# Altium integrated library Linear Technology Power Management Battery Management.IntLib: 626 symbols (part 1 of 56)
Pins are listed as number, name and electrical type; pins without a type are passive.

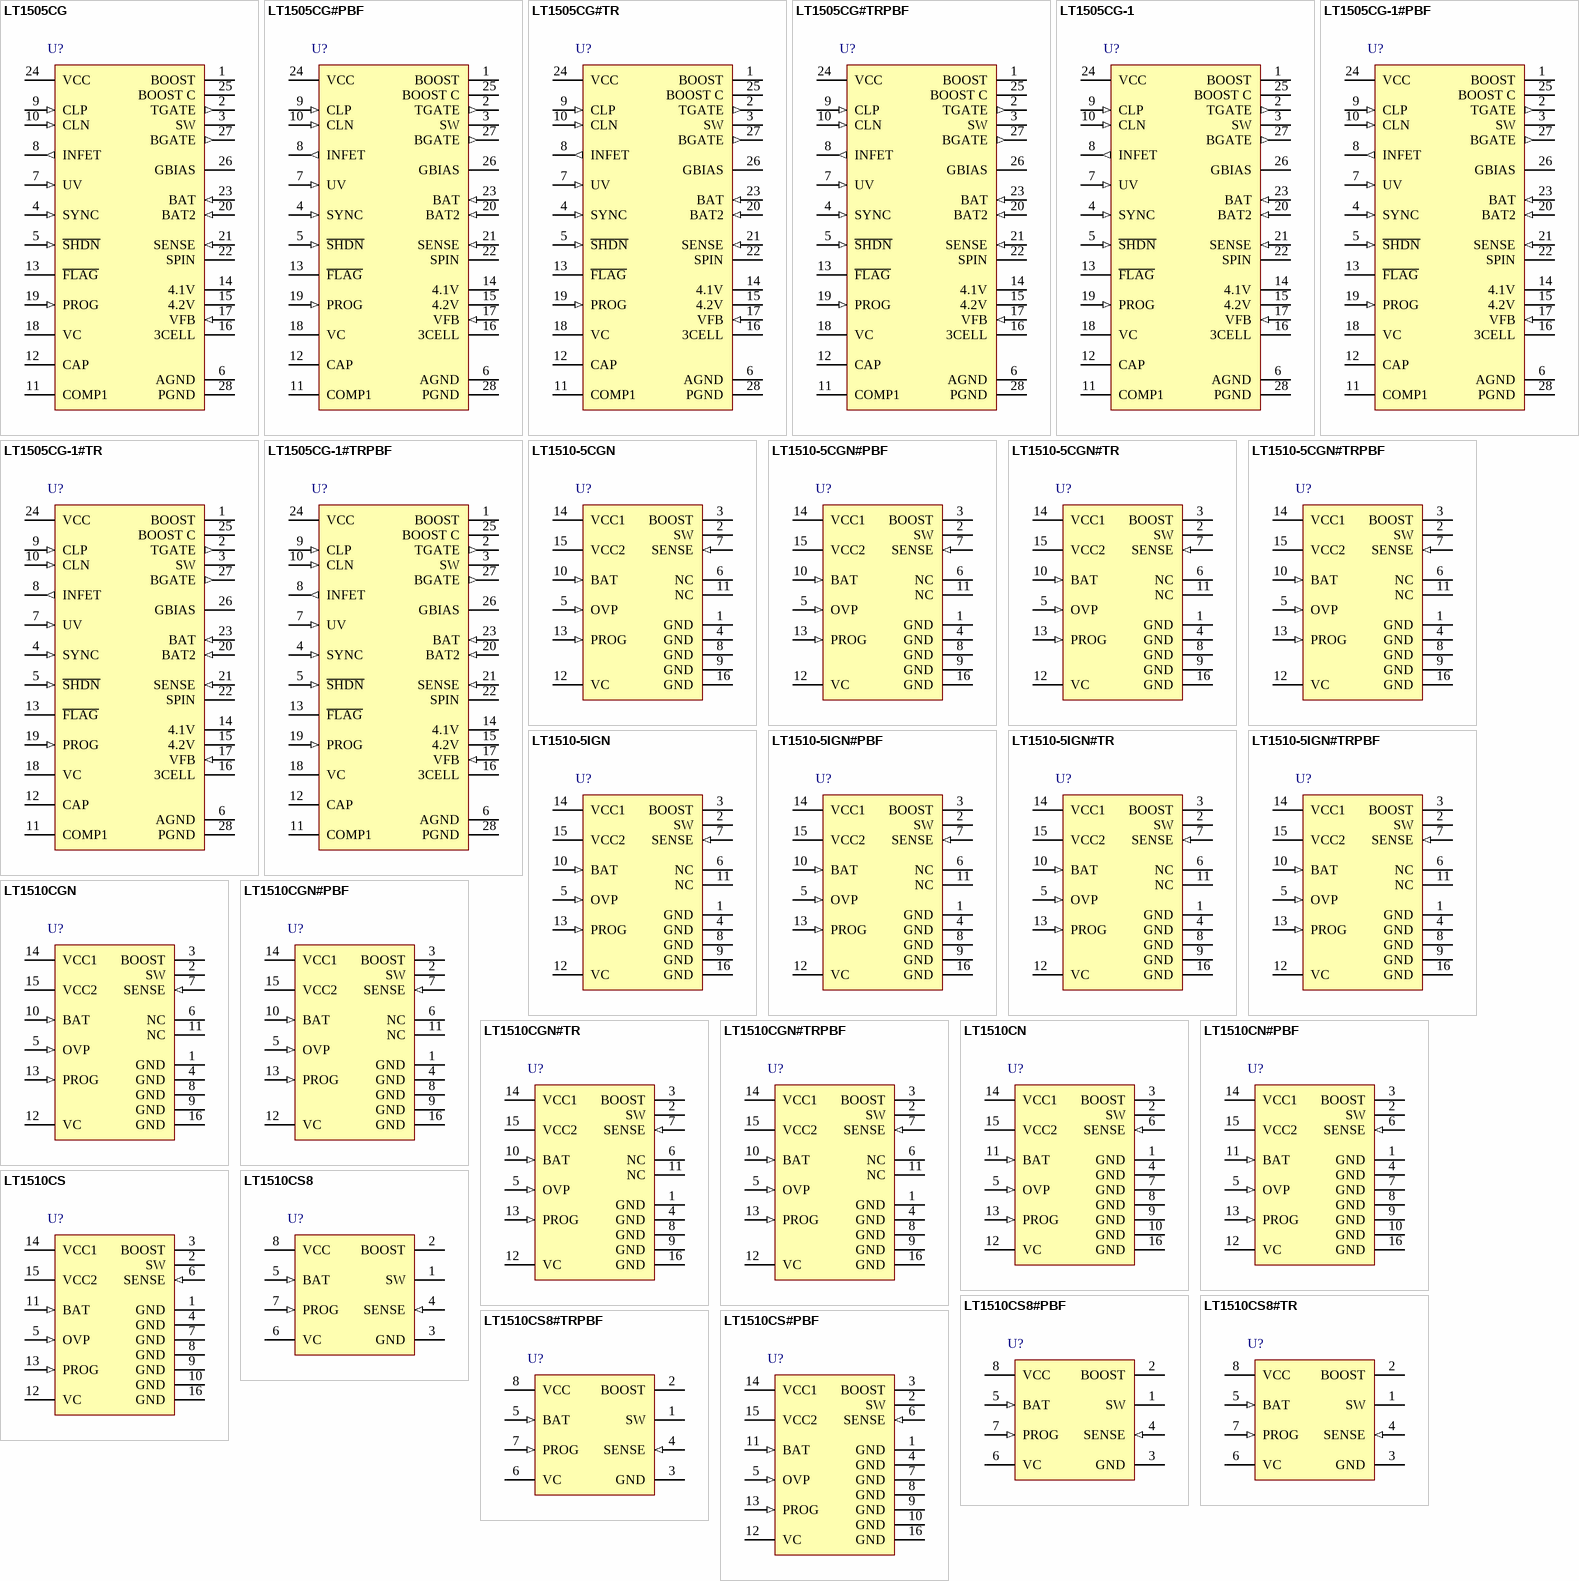
[diagram p0: symbols LT1505CG to LT1510CS#PBF]

## LT1505CG
designator U?
Synchronous Switching Controller for High Current, High Efficiency, 11 to 24 V Vin, 28-pin SOP (G-28), 0 to 70 degC; Manufacturer: Linear Technology; PartNumber: LT1505CG; Battery Chemistry: Li-Ion, Li-Polymer, NiCd, NiMH, Lead Acid; Charge Termination: Microcontroller; Float Voltage: Adj; Max Charge Current(A): 4; Number of Cells: 1 to 4 (Li), 1 to 12 (Ni); Vin Max(V): 24; Vin Min(V): 11; DatasheetVersion: Rev. C; PackageVersion: Jun-10; PackageReference: G-28; PackageDescription: 28-Pin Plastic SSOP, Body 10.2 x 5.3 mm, Pitch 0.65 mm; Supplier 1: Digi-Key; Supplier Part Number 1: LT1505CG-ND; RoHS: FALSE; Type of Charger: Switching; Mounting Technology: Surface Mount; ComponentLink1Description: Manufacturer URL; ComponentLink1URL: http://www.linear.com/; ComponentLink2Description: Datasheet; ComponentLink2URL: http://cds.linear.com/docs/en/datasheet/1505fc.pdf; ComponentLink3Description: Package Specification; ComponentLink3URL: http://cds.linear.com/docs/en/packaging/SSOP_28_05-08-1640.pdf
footprint LT-G-28_N (SOP, 28-Leads, Body 10.2x5.3mm, Pitch 0.65mm, IPC Medium Density)
footprint LT-G-28_L (SOP, 28-Leads, Body 10.2x5.3mm, Pitch 0.65mm, IPC High Density)
footprint LT-G-28_M (SOP, 28-Leads, Body 10.2x5.3mm, Pitch 0.65mm, IPC Low Density)
pins: 1 BOOST "This pin is used to bootstrap and supply power for the topside power switch gate drive and control circuity. In normal operation, VBOOST is powered from an internally generated 8.6V regulator VGBIAS, VBOOST approx=  VCC + 9.(See Datasheet)", 2 TGATE (out) "This pin provides gate drive to the topside power FET. When TGATE is driven on, the gate voltage will be approximately equal to VSW + 6.6V. A series resistor of 5ohm to 10ohm should be used from this pin to the gate of the (See Datasheet)", 3 SW "This pin is the reference point for the floating topside gate drive circuitry. It is the common connection for the top and bottom side switches and the output inductor. This pin switches between ground and VCC with very high (See Datasheet)", 4 SYNC (in) "Synchronization Input. The LT1505 can be synchronized to an external clock with pulses that have duty cycles between 10% and 95%. An internal one shot that is triggered on the rising edge of the sync pulse makes this input (See Datasheet)", 5 ~{SHDN} (in) "Shutdown. When this pin is pulled below 1V, switching will stop, GBIAS will go low and the input currents of CA1 will be off. Note that input current of about 4mA keeps the device in shutdown unless an external pull-up (See Datasheet)", 6 AGND (power) "Low Current Analog Ground.", 7 UV (in) "Undervoltage Lockout Input. The rising threshold is 6.7V with a hysteresis of 0.5V. Switching stops in undervoltage lockout. When the input supply (normally the wall adapter output) to the chip is removed, the UV pin must be (See Datasheet)", 8 INFET (out) "For very low dropout applications, an external P-channel MOSFET can be used to connect the input supply to VCC. This pin provides the gate drive for the PFET. The gate drive is clamped to 8V below VCC. The gate is driven on (See Datasheet)", 9 CLP (in) "Positive Input to the Input Current Limit Amplifier CL1. The threshold is set at 92mV. When used to limit input current, a filter is needed to filter out the 200kHz switching noise.", 10 CLN (in) "Negative Input to the Input Current Limit Amplifier CL1. When used, both CLP and CLN should be connected to a voltage higher than 6V and normally VCC (to the VCC bypass capacitor for less noise). Maximum voltage allowed on (See Datasheet)", 11 COMP1 "Compensation Node for the Input Current Limit Amplifier CL1. At input adapter current limit, this pin rises to 1V. By forcing COMP1 low with an external transistor, amplifier CL1 will be disabled (no adapter current limit). (See Datasheet)", 12 CAP "A 0.1uF capacitor from CAP to ground is needed to filter the sampled charging current signal. This filtered signal is used to set the FLAG pin when the charging current drops below 20% of the programmed maximum charging (See Datasheet)", 13 ~{FLAG} (oc) "This pin is an open-collector output that is used to indicate the end of charge. The F\L\A\G\ pin is driven low when the charge current drops below 20% of the programmed charge current. A pull-up resistor is required if this (See Datasheet)", 14 4.1V "These four pins are used to select the battery voltage using the preset internal resistor network. The VFB pin is the noninverting input to the amplifier, VA in the Block Diagram, that controls the charging current when the (See Datasheet)", 15 4.2V "These four pins are used to select the battery voltage using the preset internal resistor network. The VFB pin is the noninverting input to the amplifier, VA in the Block Diagram, that controls the charging current when the (See Datasheet)", 16 3CELL "These four pins are used to select the battery voltage using the preset internal resistor network. The VFB pin is the noninverting input to the amplifier, VA in the Block Diagram, that controls the charging current when the (See Datasheet)", 17 VFB (in) "These four pins are used to select the battery voltage using the preset internal resistor network. The VFB pin is the noninverting input to the amplifier, VA in the Block Diagram, that controls the charging current when the (See Datasheet)", 18 VC "This is the control signal of the inner loop of the current mode PWM. Switching starts at 0.9V, higher VC corresponds to higher charging current in normal operation and reaches 1.1V at full charging current. A capacitor of (See Datasheet)", 19 PROG (in) "This pin is for programming the charge current and for system loop compensation. During normal operation, VPROG stays at 2.465V. If it is shorted to GND or more than 1mA is drawn out of the pin, switching will stop. When a (See Datasheet)", 20 BAT2 (in) "This pin is used to connect the battery to the internal preset voltage setting resistor. An internal switch disconnects the internal divider from the battery when the device is in shutdown or when power is disconnected. This (See Datasheet)", 21 SENSE (in) "This pin is the noninverting input to the current amplifier CA1 in the Block Diagram. Typical bias current is -50uA.", 22 SPIN "This pin is for the internal amplifier CA1 bias. It must be connected as shown in the application circuit.", 23 BAT (in) "Current Amplifier CA1 Inverting Input. Typical bias current is -50uA.", 24 VCC (power) "Input Supply. For good bypass, a low ESR capacitor of 10uF or higher is required. Keep the lead length to a minimum. VCC should be between 11V and 24V Do not force VCC below VBAT by more than 1V with the battery present.", 25 BOOST C (power) "This pin is used to bootstrap and supply the current sense amplifier CA1 for very low dropout condition. VCC can be as low as only 0.4V above the battery voltage. A diode and a capacitor are needed to get the voltage from (See Datasheet)", 26 GBIAS "This is the output of the internal 9.1V regulator to power the drivers and control circuits. This pin must be bypassed to a ground plane with a minimum of 2.2uF ceramic capacitor. Switching will stop when VGBIAS drops below (See Datasheet)", 27 BGATE (out) "Low Side Power MOSFET Drive.", 28 PGND (power) "MOSFET Driver Power Ground. A solid system ground plane is very important. See the LT1505 Demo Manual for further information."

## LT1505CG#PBF
designator U?
Synchronous Switching Controller for High Current, High Efficiency, 11 to 24 V Vin, 28-pin SOP (G-28), 0 to 70 degC, Pb-Free; Manufacturer: Linear Technology; PartNumber: LT1505CG#PBF; Battery Chemistry: Li-Ion, Li-Polymer, NiCd, NiMH, Lead Acid; Charge Termination: Microcontroller; Float Voltage: Adj; Max Charge Current(A): 4; Number of Cells: 1 to 4 (Li), 1 to 12 (Ni); Vin Max(V): 24; Vin Min(V): 11; DatasheetVersion: Rev. C; PackageVersion: Jun-10; PackageReference: G-28; PackageDescription: 28-Pin Plastic SSOP, Body 10.2 x 5.3 mm, Pitch 0.65 mm; Supplier 1: Digi-Key; Supplier Part Number 1: LT1505CG#PBF-ND; Supplier 2: Farnell; Supplier Part Number 2: 1648005; Supplier 3: Newark; Supplier Part Number 3: 58M0976; RoHS: TRUE; Type of Charger: Switching; Mounting Technology: Surface Mount; ComponentLink1Description: Manufacturer URL; ComponentLink1URL: http://www.linear.com/; ComponentLink2Description: Datasheet; ComponentLink2URL: http://cds.linear.com/docs/en/datasheet/1505fc.pdf; ComponentLink3Description: Package Specification; ComponentLink3URL: http://cds.linear.com/docs/en/packaging/SSOP_28_05-08-1640.pdf
footprint LT-G-28_N (SOP, 28-Leads, Body 10.2x5.3mm, Pitch 0.65mm, IPC Medium Density)
footprint LT-G-28_L (SOP, 28-Leads, Body 10.2x5.3mm, Pitch 0.65mm, IPC High Density)
footprint LT-G-28_M (SOP, 28-Leads, Body 10.2x5.3mm, Pitch 0.65mm, IPC Low Density)
pins: 1 BOOST "This pin is used to bootstrap and supply power for the topside power switch gate drive and control circuity. In normal operation, VBOOST is powered from an internally generated 8.6V regulator VGBIAS, VBOOST approx=  VCC + 9.(See Datasheet)", 2 TGATE (out) "This pin provides gate drive to the topside power FET. When TGATE is driven on, the gate voltage will be approximately equal to VSW + 6.6V. A series resistor of 5ohm to 10ohm should be used from this pin to the gate of the (See Datasheet)", 3 SW "This pin is the reference point for the floating topside gate drive circuitry. It is the common connection for the top and bottom side switches and the output inductor. This pin switches between ground and VCC with very high (See Datasheet)", 4 SYNC (in) "Synchronization Input. The LT1505 can be synchronized to an external clock with pulses that have duty cycles between 10% and 95%. An internal one shot that is triggered on the rising edge of the sync pulse makes this input (See Datasheet)", 5 ~{SHDN} (in) "Shutdown. When this pin is pulled below 1V, switching will stop, GBIAS will go low and the input currents of CA1 will be off. Note that input current of about 4mA keeps the device in shutdown unless an external pull-up (See Datasheet)", 6 AGND (power) "Low Current Analog Ground.", 7 UV (in) "Undervoltage Lockout Input. The rising threshold is 6.7V with a hysteresis of 0.5V. Switching stops in undervoltage lockout. When the input supply (normally the wall adapter output) to the chip is removed, the UV pin must be (See Datasheet)", 8 INFET (out) "For very low dropout applications, an external P-channel MOSFET can be used to connect the input supply to VCC. This pin provides the gate drive for the PFET. The gate drive is clamped to 8V below VCC. The gate is driven on (See Datasheet)", 9 CLP (in) "Positive Input to the Input Current Limit Amplifier CL1. The threshold is set at 92mV. When used to limit input current, a filter is needed to filter out the 200kHz switching noise.", 10 CLN (in) "Negative Input to the Input Current Limit Amplifier CL1. When used, both CLP and CLN should be connected to a voltage higher than 6V and normally VCC (to the VCC bypass capacitor for less noise). Maximum voltage allowed on (See Datasheet)", 11 COMP1 "Compensation Node for the Input Current Limit Amplifier CL1. At input adapter current limit, this pin rises to 1V. By forcing COMP1 low with an external transistor, amplifier CL1 will be disabled (no adapter current limit). (See Datasheet)", 12 CAP "A 0.1uF capacitor from CAP to ground is needed to filter the sampled charging current signal. This filtered signal is used to set the FLAG pin when the charging current drops below 20% of the programmed maximum charging (See Datasheet)", 13 ~{FLAG} (oc) "This pin is an open-collector output that is used to indicate the end of charge. The F\L\A\G\ pin is driven low when the charge current drops below 20% of the programmed charge current. A pull-up resistor is required if this (See Datasheet)", 14 4.1V "These four pins are used to select the battery voltage using the preset internal resistor network. The VFB pin is the noninverting input to the amplifier, VA in the Block Diagram, that controls the charging current when the (See Datasheet)", 15 4.2V "These four pins are used to select the battery voltage using the preset internal resistor network. The VFB pin is the noninverting input to the amplifier, VA in the Block Diagram, that controls the charging current when the (See Datasheet)", 16 3CELL "These four pins are used to select the battery voltage using the preset internal resistor network. The VFB pin is the noninverting input to the amplifier, VA in the Block Diagram, that controls the charging current when the (See Datasheet)", 17 VFB (in) "These four pins are used to select the battery voltage using the preset internal resistor network. The VFB pin is the noninverting input to the amplifier, VA in the Block Diagram, that controls the charging current when the (See Datasheet)", 18 VC "This is the control signal of the inner loop of the current mode PWM. Switching starts at 0.9V, higher VC corresponds to higher charging current in normal operation and reaches 1.1V at full charging current. A capacitor of (See Datasheet)", 19 PROG (in) "This pin is for programming the charge current and for system loop compensation. During normal operation, VPROG stays at 2.465V. If it is shorted to GND or more than 1mA is drawn out of the pin, switching will stop. When a (See Datasheet)", 20 BAT2 (in) "This pin is used to connect the battery to the internal preset voltage setting resistor. An internal switch disconnects the internal divider from the battery when the device is in shutdown or when power is disconnected. This (See Datasheet)", 21 SENSE (in) "This pin is the noninverting input to the current amplifier CA1 in the Block Diagram. Typical bias current is -50uA.", 22 SPIN "This pin is for the internal amplifier CA1 bias. It must be connected as shown in the application circuit.", 23 BAT (in) "Current Amplifier CA1 Inverting Input. Typical bias current is -50uA.", 24 VCC (power) "Input Supply. For good bypass, a low ESR capacitor of 10uF or higher is required. Keep the lead length to a minimum. VCC should be between 11V and 24V Do not force VCC below VBAT by more than 1V with the battery present.", 25 BOOST C (power) "This pin is used to bootstrap and supply the current sense amplifier CA1 for very low dropout condition. VCC can be as low as only 0.4V above the battery voltage. A diode and a capacitor are needed to get the voltage from (See Datasheet)", 26 GBIAS "This is the output of the internal 9.1V regulator to power the drivers and control circuits. This pin must be bypassed to a ground plane with a minimum of 2.2uF ceramic capacitor. Switching will stop when VGBIAS drops below (See Datasheet)", 27 BGATE (out) "Low Side Power MOSFET Drive.", 28 PGND (power) "MOSFET Driver Power Ground. A solid system ground plane is very important. See the LT1505 Demo Manual for further information."

## LT1505CG#TR
designator U?
Synchronous Switching Controller for High Current, High Efficiency, 11 to 24 V Vin, 28-pin SOP (G-28), 0 to 70 degC, Tape and Reel; Manufacturer: Linear Technology; PartNumber: LT1505CG#TR; Battery Chemistry: Li-Ion, Li-Polymer, NiCd, NiMH, Lead Acid; Charge Termination: Microcontroller; Float Voltage: Adj; Max Charge Current(A): 4; Number of Cells: 1 to 4 (Li), 1 to 12 (Ni); Vin Max(V): 24; Vin Min(V): 11; DatasheetVersion: Rev. C; PackageVersion: Jun-10; PackageReference: G-28; PackageDescription: 28-Pin Plastic SSOP, Body 10.2 x 5.3 mm, Pitch 0.65 mm; Supplier 1: Digi-Key; Supplier Part Number 1: LT1505CG#TR-ND; Packing: Tape and Reel; RoHS: FALSE; Type of Charger: Switching; Mounting Technology: Surface Mount; ComponentLink1Description: Manufacturer URL; ComponentLink1URL: http://www.linear.com/; ComponentLink2Description: Datasheet; ComponentLink2URL: http://cds.linear.com/docs/en/datasheet/1505fc.pdf; ComponentLink3Description: Package Specification; ComponentLink3URL: http://cds.linear.com/docs/en/packaging/SSOP_28_05-08-1640.pdf
footprint LT-G-28_N (SOP, 28-Leads, Body 10.2x5.3mm, Pitch 0.65mm, IPC Medium Density)
footprint LT-G-28_L (SOP, 28-Leads, Body 10.2x5.3mm, Pitch 0.65mm, IPC High Density)
footprint LT-G-28_M (SOP, 28-Leads, Body 10.2x5.3mm, Pitch 0.65mm, IPC Low Density)
pins: 1 BOOST "This pin is used to bootstrap and supply power for the topside power switch gate drive and control circuity. In normal operation, VBOOST is powered from an internally generated 8.6V regulator VGBIAS, VBOOST approx=  VCC + 9.(See Datasheet)", 2 TGATE (out) "This pin provides gate drive to the topside power FET. When TGATE is driven on, the gate voltage will be approximately equal to VSW + 6.6V. A series resistor of 5ohm to 10ohm should be used from this pin to the gate of the (See Datasheet)", 3 SW "This pin is the reference point for the floating topside gate drive circuitry. It is the common connection for the top and bottom side switches and the output inductor. This pin switches between ground and VCC with very high (See Datasheet)", 4 SYNC (in) "Synchronization Input. The LT1505 can be synchronized to an external clock with pulses that have duty cycles between 10% and 95%. An internal one shot that is triggered on the rising edge of the sync pulse makes this input (See Datasheet)", 5 ~{SHDN} (in) "Shutdown. When this pin is pulled below 1V, switching will stop, GBIAS will go low and the input currents of CA1 will be off. Note that input current of about 4mA keeps the device in shutdown unless an external pull-up (See Datasheet)", 6 AGND (power) "Low Current Analog Ground.", 7 UV (in) "Undervoltage Lockout Input. The rising threshold is 6.7V with a hysteresis of 0.5V. Switching stops in undervoltage lockout. When the input supply (normally the wall adapter output) to the chip is removed, the UV pin must be (See Datasheet)", 8 INFET (out) "For very low dropout applications, an external P-channel MOSFET can be used to connect the input supply to VCC. This pin provides the gate drive for the PFET. The gate drive is clamped to 8V below VCC. The gate is driven on (See Datasheet)", 9 CLP (in) "Positive Input to the Input Current Limit Amplifier CL1. The threshold is set at 92mV. When used to limit input current, a filter is needed to filter out the 200kHz switching noise.", 10 CLN (in) "Negative Input to the Input Current Limit Amplifier CL1. When used, both CLP and CLN should be connected to a voltage higher than 6V and normally VCC (to the VCC bypass capacitor for less noise). Maximum voltage allowed on (See Datasheet)", 11 COMP1 "Compensation Node for the Input Current Limit Amplifier CL1. At input adapter current limit, this pin rises to 1V. By forcing COMP1 low with an external transistor, amplifier CL1 will be disabled (no adapter current limit). (See Datasheet)", 12 CAP "A 0.1uF capacitor from CAP to ground is needed to filter the sampled charging current signal. This filtered signal is used to set the FLAG pin when the charging current drops below 20% of the programmed maximum charging (See Datasheet)", 13 ~{FLAG} (oc) "This pin is an open-collector output that is used to indicate the end of charge. The F\L\A\G\ pin is driven low when the charge current drops below 20% of the programmed charge current. A pull-up resistor is required if this (See Datasheet)", 14 4.1V "These four pins are used to select the battery voltage using the preset internal resistor network. The VFB pin is the noninverting input to the amplifier, VA in the Block Diagram, that controls the charging current when the (See Datasheet)", 15 4.2V "These four pins are used to select the battery voltage using the preset internal resistor network. The VFB pin is the noninverting input to the amplifier, VA in the Block Diagram, that controls the charging current when the (See Datasheet)", 16 3CELL "These four pins are used to select the battery voltage using the preset internal resistor network. The VFB pin is the noninverting input to the amplifier, VA in the Block Diagram, that controls the charging current when the (See Datasheet)", 17 VFB (in) "These four pins are used to select the battery voltage using the preset internal resistor network. The VFB pin is the noninverting input to the amplifier, VA in the Block Diagram, that controls the charging current when the (See Datasheet)", 18 VC "This is the control signal of the inner loop of the current mode PWM. Switching starts at 0.9V, higher VC corresponds to higher charging current in normal operation and reaches 1.1V at full charging current. A capacitor of (See Datasheet)", 19 PROG (in) "This pin is for programming the charge current and for system loop compensation. During normal operation, VPROG stays at 2.465V. If it is shorted to GND or more than 1mA is drawn out of the pin, switching will stop. When a (See Datasheet)", 20 BAT2 (in) "This pin is used to connect the battery to the internal preset voltage setting resistor. An internal switch disconnects the internal divider from the battery when the device is in shutdown or when power is disconnected. This (See Datasheet)", 21 SENSE (in) "This pin is the noninverting input to the current amplifier CA1 in the Block Diagram. Typical bias current is -50uA.", 22 SPIN "This pin is for the internal amplifier CA1 bias. It must be connected as shown in the application circuit.", 23 BAT (in) "Current Amplifier CA1 Inverting Input. Typical bias current is -50uA.", 24 VCC (power) "Input Supply. For good bypass, a low ESR capacitor of 10uF or higher is required. Keep the lead length to a minimum. VCC should be between 11V and 24V Do not force VCC below VBAT by more than 1V with the battery present.", 25 BOOST C (power) "This pin is used to bootstrap and supply the current sense amplifier CA1 for very low dropout condition. VCC can be as low as only 0.4V above the battery voltage. A diode and a capacitor are needed to get the voltage from (See Datasheet)", 26 GBIAS "This is the output of the internal 9.1V regulator to power the drivers and control circuits. This pin must be bypassed to a ground plane with a minimum of 2.2uF ceramic capacitor. Switching will stop when VGBIAS drops below (See Datasheet)", 27 BGATE (out) "Low Side Power MOSFET Drive.", 28 PGND (power) "MOSFET Driver Power Ground. A solid system ground plane is very important. See the LT1505 Demo Manual for further information."

## LT1505CG#TRPBF
designator U?
Synchronous Switching Controller for High Current, High Efficiency, 11 to 24 V Vin, 28-pin SOP (G-28), 0 to 70 degC, Pb-Free, Tape and Reel; Manufacturer: Linear Technology; PartNumber: LT1505CG#TRPBF; Battery Chemistry: Li-Ion, Li-Polymer, NiCd, NiMH, Lead Acid; Charge Termination: Microcontroller; Float Voltage: Adj; Max Charge Current(A): 4; Number of Cells: 1 to 4 (Li), 1 to 12 (Ni); Vin Max(V): 24; Vin Min(V): 11; DatasheetVersion: Rev. C; PackageVersion: Jun-10; PackageReference: G-28; PackageDescription: 28-Pin Plastic SSOP, Body 10.2 x 5.3 mm, Pitch 0.65 mm; Supplier 1: Digi-Key; Supplier Part Number 1: LT1505CG#TRPBF-ND; Supplier 2: Newark; Supplier Part Number 2: 58M0978; Packing: Tape and Reel; RoHS: TRUE; Type of Charger: Switching; Mounting Technology: Surface Mount; ComponentLink1Description: Manufacturer URL; ComponentLink1URL: http://www.linear.com/; ComponentLink2Description: Datasheet; ComponentLink2URL: http://cds.linear.com/docs/en/datasheet/1505fc.pdf; ComponentLink3Description: Package Specification; ComponentLink3URL: http://cds.linear.com/docs/en/packaging/SSOP_28_05-08-1640.pdf
footprint LT-G-28_N (SOP, 28-Leads, Body 10.2x5.3mm, Pitch 0.65mm, IPC Medium Density)
footprint LT-G-28_L (SOP, 28-Leads, Body 10.2x5.3mm, Pitch 0.65mm, IPC High Density)
footprint LT-G-28_M (SOP, 28-Leads, Body 10.2x5.3mm, Pitch 0.65mm, IPC Low Density)
pins: 1 BOOST "This pin is used to bootstrap and supply power for the topside power switch gate drive and control circuity. In normal operation, VBOOST is powered from an internally generated 8.6V regulator VGBIAS, VBOOST approx=  VCC + 9.(See Datasheet)", 2 TGATE (out) "This pin provides gate drive to the topside power FET. When TGATE is driven on, the gate voltage will be approximately equal to VSW + 6.6V. A series resistor of 5ohm to 10ohm should be used from this pin to the gate of the (See Datasheet)", 3 SW "This pin is the reference point for the floating topside gate drive circuitry. It is the common connection for the top and bottom side switches and the output inductor. This pin switches between ground and VCC with very high (See Datasheet)", 4 SYNC (in) "Synchronization Input. The LT1505 can be synchronized to an external clock with pulses that have duty cycles between 10% and 95%. An internal one shot that is triggered on the rising edge of the sync pulse makes this input (See Datasheet)", 5 ~{SHDN} (in) "Shutdown. When this pin is pulled below 1V, switching will stop, GBIAS will go low and the input currents of CA1 will be off. Note that input current of about 4mA keeps the device in shutdown unless an external pull-up (See Datasheet)", 6 AGND (power) "Low Current Analog Ground.", 7 UV (in) "Undervoltage Lockout Input. The rising threshold is 6.7V with a hysteresis of 0.5V. Switching stops in undervoltage lockout. When the input supply (normally the wall adapter output) to the chip is removed, the UV pin must be (See Datasheet)", 8 INFET (out) "For very low dropout applications, an external P-channel MOSFET can be used to connect the input supply to VCC. This pin provides the gate drive for the PFET. The gate drive is clamped to 8V below VCC. The gate is driven on (See Datasheet)", 9 CLP (in) "Positive Input to the Input Current Limit Amplifier CL1. The threshold is set at 92mV. When used to limit input current, a filter is needed to filter out the 200kHz switching noise.", 10 CLN (in) "Negative Input to the Input Current Limit Amplifier CL1. When used, both CLP and CLN should be connected to a voltage higher than 6V and normally VCC (to the VCC bypass capacitor for less noise). Maximum voltage allowed on (See Datasheet)", 11 COMP1 "Compensation Node for the Input Current Limit Amplifier CL1. At input adapter current limit, this pin rises to 1V. By forcing COMP1 low with an external transistor, amplifier CL1 will be disabled (no adapter current limit). (See Datasheet)", 12 CAP "A 0.1uF capacitor from CAP to ground is needed to filter the sampled charging current signal. This filtered signal is used to set the FLAG pin when the charging current drops below 20% of the programmed maximum charging (See Datasheet)", 13 ~{FLAG} (oc) "This pin is an open-collector output that is used to indicate the end of charge. The F\L\A\G\ pin is driven low when the charge current drops below 20% of the programmed charge current. A pull-up resistor is required if this (See Datasheet)", 14 4.1V "These four pins are used to select the battery voltage using the preset internal resistor network. The VFB pin is the noninverting input to the amplifier, VA in the Block Diagram, that controls the charging current when the (See Datasheet)", 15 4.2V "These four pins are used to select the battery voltage using the preset internal resistor network. The VFB pin is the noninverting input to the amplifier, VA in the Block Diagram, that controls the charging current when the (See Datasheet)", 16 3CELL "These four pins are used to select the battery voltage using the preset internal resistor network. The VFB pin is the noninverting input to the amplifier, VA in the Block Diagram, that controls the charging current when the (See Datasheet)", 17 VFB (in) "These four pins are used to select the battery voltage using the preset internal resistor network. The VFB pin is the noninverting input to the amplifier, VA in the Block Diagram, that controls the charging current when the (See Datasheet)", 18 VC "This is the control signal of the inner loop of the current mode PWM. Switching starts at 0.9V, higher VC corresponds to higher charging current in normal operation and reaches 1.1V at full charging current. A capacitor of (See Datasheet)", 19 PROG (in) "This pin is for programming the charge current and for system loop compensation. During normal operation, VPROG stays at 2.465V. If it is shorted to GND or more than 1mA is drawn out of the pin, switching will stop. When a (See Datasheet)", 20 BAT2 (in) "This pin is used to connect the battery to the internal preset voltage setting resistor. An internal switch disconnects the internal divider from the battery when the device is in shutdown or when power is disconnected. This (See Datasheet)", 21 SENSE (in) "This pin is the noninverting input to the current amplifier CA1 in the Block Diagram. Typical bias current is -50uA.", 22 SPIN "This pin is for the internal amplifier CA1 bias. It must be connected as shown in the application circuit.", 23 BAT (in) "Current Amplifier CA1 Inverting Input. Typical bias current is -50uA.", 24 VCC (power) "Input Supply. For good bypass, a low ESR capacitor of 10uF or higher is required. Keep the lead length to a minimum. VCC should be between 11V and 24V Do not force VCC below VBAT by more than 1V with the battery present.", 25 BOOST C (power) "This pin is used to bootstrap and supply the current sense amplifier CA1 for very low dropout condition. VCC can be as low as only 0.4V above the battery voltage. A diode and a capacitor are needed to get the voltage from (See Datasheet)", 26 GBIAS "This is the output of the internal 9.1V regulator to power the drivers and control circuits. This pin must be bypassed to a ground plane with a minimum of 2.2uF ceramic capacitor. Switching will stop when VGBIAS drops below (See Datasheet)", 27 BGATE (out) "Low Side Power MOSFET Drive.", 28 PGND (power) "MOSFET Driver Power Ground. A solid system ground plane is very important. See the LT1505 Demo Manual for further information."

## LT1505CG-1
designator U?
Synchronous Switching Controller for High Current, High Efficiency, 11 to 24 V Vin, 28-pin SOP (G-28), 0 to 70 degC; Manufacturer: Linear Technology; PartNumber: LT1505CG-1; Battery Chemistry: Li-Ion, Li-Polymer, NiCd, NiMH, Lead Acid; Charge Termination: Microcontroller; Float Voltage: Adj; Max Charge Current(A): 4; Number of Cells: 1 to 4 (Li), 1 to 12 (Ni); Vin Max(V): 24; Vin Min(V): 11; DatasheetVersion: Rev. C; PackageVersion: Jun-10; PackageReference: G-28; PackageDescription: 28-Pin Plastic SSOP, Body 10.2 x 5.3 mm, Pitch 0.65 mm; Supplier 1: Digi-Key; Supplier Part Number 1: LT1505CG-1-ND; RoHS: FALSE; Type of Charger: Switching; Mounting Technology: Surface Mount; ComponentLink1Description: Manufacturer URL; ComponentLink1URL: http://www.linear.com/; ComponentLink2Description: Datasheet; ComponentLink2URL: http://cds.linear.com/docs/en/datasheet/1505fc.pdf; ComponentLink3Description: Package Specification; ComponentLink3URL: http://cds.linear.com/docs/en/packaging/SSOP_28_05-08-1640.pdf
footprint LT-G-28_N (SOP, 28-Leads, Body 10.2x5.3mm, Pitch 0.65mm, IPC Medium Density)
footprint LT-G-28_L (SOP, 28-Leads, Body 10.2x5.3mm, Pitch 0.65mm, IPC High Density)
footprint LT-G-28_M (SOP, 28-Leads, Body 10.2x5.3mm, Pitch 0.65mm, IPC Low Density)
pins: 1 BOOST "This pin is used to bootstrap and supply power for the topside power switch gate drive and control circuity. In normal operation, VBOOST is powered from an internally generated 8.6V regulator VGBIAS, VBOOST approx=  VCC + 9.(See Datasheet)", 2 TGATE (out) "This pin provides gate drive to the topside power FET. When TGATE is driven on, the gate voltage will be approximately equal to VSW + 6.6V. A series resistor of 5ohm to 10ohm should be used from this pin to the gate of the (See Datasheet)", 3 SW "This pin is the reference point for the floating topside gate drive circuitry. It is the common connection for the top and bottom side switches and the output inductor. This pin switches between ground and VCC with very high (See Datasheet)", 4 SYNC (in) "Synchronization Input. The LT1505 can be synchronized to an external clock with pulses that have duty cycles between 10% and 95%. An internal one shot that is triggered on the rising edge of the sync pulse makes this input (See Datasheet)", 5 ~{SHDN} (in) "Shutdown. When this pin is pulled below 1V, switching will stop, GBIAS will go low and the input currents of CA1 will be off. Note that input current of about 4mA keeps the device in shutdown unless an external pull-up (See Datasheet)", 6 AGND (power) "Low Current Analog Ground.", 7 UV (in) "Undervoltage Lockout Input. The rising threshold is 6.7V with a hysteresis of 0.5V. Switching stops in undervoltage lockout. When the input supply (normally the wall adapter output) to the chip is removed, the UV pin must be (See Datasheet)", 8 INFET (out) "For very low dropout applications, an external P-channel MOSFET can be used to connect the input supply to VCC. This pin provides the gate drive for the PFET. The gate drive is clamped to 8V below VCC. The gate is driven on (See Datasheet)", 9 CLP (in) "Positive Input to the Input Current Limit Amplifier CL1. The threshold is set at 92mV. When used to limit input current, a filter is needed to filter out the 200kHz switching noise.", 10 CLN (in) "Negative Input to the Input Current Limit Amplifier CL1. When used, both CLP and CLN should be connected to a voltage higher than 6V and normally VCC (to the VCC bypass capacitor for less noise). Maximum voltage allowed on (See Datasheet)", 11 COMP1 "Compensation Node for the Input Current Limit Amplifier CL1. At input adapter current limit, this pin rises to 1V. By forcing COMP1 low with an external transistor, amplifier CL1 will be disabled (no adapter current limit). (See Datasheet)", 12 CAP "A 0.1uF capacitor from CAP to ground is needed to filter the sampled charging current signal. This filtered signal is used to set the FLAG pin when the charging current drops below 20% of the programmed maximum charging (See Datasheet)", 13 ~{FLAG} (oc) "This pin is an open-collector output that is used to indicate the end of charge. The F\L\A\G\ pin is driven low when the charge current drops below 20% of the programmed charge current. A pull-up resistor is required if this (See Datasheet)", 14 4.1V "These four pins are used to select the battery voltage using the preset internal resistor network. The VFB pin is the noninverting input to the amplifier, VA in the Block Diagram, that controls the charging current when the (See Datasheet)", 15 4.2V "These four pins are used to select the battery voltage using the preset internal resistor network. The VFB pin is the noninverting input to the amplifier, VA in the Block Diagram, that controls the charging current when the (See Datasheet)", 16 3CELL "These four pins are used to select the battery voltage using the preset internal resistor network. The VFB pin is the noninverting input to the amplifier, VA in the Block Diagram, that controls the charging current when the (See Datasheet)", 17 VFB (in) "These four pins are used to select the battery voltage using the preset internal resistor network. The VFB pin is the noninverting input to the amplifier, VA in the Block Diagram, that controls the charging current when the (See Datasheet)", 18 VC "This is the control signal of the inner loop of the current mode PWM. Switching starts at 0.9V, higher VC corresponds to higher charging current in normal operation and reaches 1.1V at full charging current. A capacitor of (See Datasheet)", 19 PROG (in) "This pin is for programming the charge current and for system loop compensation. During normal operation, VPROG stays at 2.465V. If it is shorted to GND or more than 1mA is drawn out of the pin, switching will stop. When a (See Datasheet)", 20 BAT2 (in) "This pin is used to connect the battery to the internal preset voltage setting resistor. An internal switch disconnects the internal divider from the battery when the device is in shutdown or when power is disconnected. This (See Datasheet)", 21 SENSE (in) "This pin is the noninverting input to the current amplifier CA1 in the Block Diagram. Typical bias current is -50uA.", 22 SPIN "This pin is for the internal amplifier CA1 bias. It must be connected as shown in the application circuit.", 23 BAT (in) "Current Amplifier CA1 Inverting Input. Typical bias current is -50uA.", 24 VCC (power) "Input Supply. For good bypass, a low ESR capacitor of 10uF or higher is required. Keep the lead length to a minimum. VCC should be between 11V and 24V Do not force VCC below VBAT by more than 1V with the battery present.", 25 BOOST C (power) "This pin is used to bootstrap and supply the current sense amplifier CA1 for very low dropout condition. VCC can be as low as only 0.4V above the battery voltage. A diode and a capacitor are needed to get the voltage from (See Datasheet)", 26 GBIAS "This is the output of the internal 9.1V regulator to power the drivers and control circuits. This pin must be bypassed to a ground plane with a minimum of 2.2uF ceramic capacitor. Switching will stop when VGBIAS drops below (See Datasheet)", 27 BGATE (out) "Low Side Power MOSFET Drive.", 28 PGND (power) "MOSFET Driver Power Ground. A solid system ground plane is very important. See the LT1505 Demo Manual for further information."

## LT1505CG-1#PBF
designator U?
Synchronous Switching Controller for High Current, High Efficiency, 11 to 24 V Vin, 28-pin SOP (G-28), 0 to 70 degC, Pb-Free; Manufacturer: Linear Technology; PartNumber: LT1505CG-1#PBF; Battery Chemistry: Li-Ion, Li-Polymer, NiCd, NiMH, Lead Acid; Charge Termination: Microcontroller; Float Voltage: Adj; Max Charge Current(A): 4; Number of Cells: 1 to 4 (Li), 1 to 12 (Ni); Vin Max(V): 24; Vin Min(V): 11; DatasheetVersion: Rev. C; PackageVersion: Jun-10; PackageReference: G-28; PackageDescription: 28-Pin Plastic SSOP, Body 10.2 x 5.3 mm, Pitch 0.65 mm; Supplier 1: Digi-Key; Supplier Part Number 1: LT1505CG-1#PBF-ND; RoHS: TRUE; Type of Charger: Switching; Mounting Technology: Surface Mount; ComponentLink1Description: Manufacturer URL; ComponentLink1URL: http://www.linear.com/; ComponentLink2Description: Datasheet; ComponentLink2URL: http://cds.linear.com/docs/en/datasheet/1505fc.pdf; ComponentLink3Description: Package Specification; ComponentLink3URL: http://cds.linear.com/docs/en/packaging/SSOP_28_05-08-1640.pdf
footprint LT-G-28_N (SOP, 28-Leads, Body 10.2x5.3mm, Pitch 0.65mm, IPC Medium Density)
footprint LT-G-28_L (SOP, 28-Leads, Body 10.2x5.3mm, Pitch 0.65mm, IPC High Density)
footprint LT-G-28_M (SOP, 28-Leads, Body 10.2x5.3mm, Pitch 0.65mm, IPC Low Density)
pins: 1 BOOST "This pin is used to bootstrap and supply power for the topside power switch gate drive and control circuity. In normal operation, VBOOST is powered from an internally generated 8.6V regulator VGBIAS, VBOOST approx=  VCC + 9.(See Datasheet)", 2 TGATE (out) "This pin provides gate drive to the topside power FET. When TGATE is driven on, the gate voltage will be approximately equal to VSW + 6.6V. A series resistor of 5ohm to 10ohm should be used from this pin to the gate of the (See Datasheet)", 3 SW "This pin is the reference point for the floating topside gate drive circuitry. It is the common connection for the top and bottom side switches and the output inductor. This pin switches between ground and VCC with very high (See Datasheet)", 4 SYNC (in) "Synchronization Input. The LT1505 can be synchronized to an external clock with pulses that have duty cycles between 10% and 95%. An internal one shot that is triggered on the rising edge of the sync pulse makes this input (See Datasheet)", 5 ~{SHDN} (in) "Shutdown. When this pin is pulled below 1V, switching will stop, GBIAS will go low and the input currents of CA1 will be off. Note that input current of about 4mA keeps the device in shutdown unless an external pull-up (See Datasheet)", 6 AGND (power) "Low Current Analog Ground.", 7 UV (in) "Undervoltage Lockout Input. The rising threshold is 6.7V with a hysteresis of 0.5V. Switching stops in undervoltage lockout. When the input supply (normally the wall adapter output) to the chip is removed, the UV pin must be (See Datasheet)", 8 INFET (out) "For very low dropout applications, an external P-channel MOSFET can be used to connect the input supply to VCC. This pin provides the gate drive for the PFET. The gate drive is clamped to 8V below VCC. The gate is driven on (See Datasheet)", 9 CLP (in) "Positive Input to the Input Current Limit Amplifier CL1. The threshold is set at 92mV. When used to limit input current, a filter is needed to filter out the 200kHz switching noise.", 10 CLN (in) "Negative Input to the Input Current Limit Amplifier CL1. When used, both CLP and CLN should be connected to a voltage higher than 6V and normally VCC (to the VCC bypass capacitor for less noise). Maximum voltage allowed on (See Datasheet)", 11 COMP1 "Compensation Node for the Input Current Limit Amplifier CL1. At input adapter current limit, this pin rises to 1V. By forcing COMP1 low with an external transistor, amplifier CL1 will be disabled (no adapter current limit). (See Datasheet)", 12 CAP "A 0.1uF capacitor from CAP to ground is needed to filter the sampled charging current signal. This filtered signal is used to set the FLAG pin when the charging current drops below 20% of the programmed maximum charging (See Datasheet)", 13 ~{FLAG} (oc) "This pin is an open-collector output that is used to indicate the end of charge. The F\L\A\G\ pin is driven low when the charge current drops below 20% of the programmed charge current. A pull-up resistor is required if this (See Datasheet)", 14 4.1V "These four pins are used to select the battery voltage using the preset internal resistor network. The VFB pin is the noninverting input to the amplifier, VA in the Block Diagram, that controls the charging current when the (See Datasheet)", 15 4.2V "These four pins are used to select the battery voltage using the preset internal resistor network. The VFB pin is the noninverting input to the amplifier, VA in the Block Diagram, that controls the charging current when the (See Datasheet)", 16 3CELL "These four pins are used to select the battery voltage using the preset internal resistor network. The VFB pin is the noninverting input to the amplifier, VA in the Block Diagram, that controls the charging current when the (See Datasheet)", 17 VFB (in) "These four pins are used to select the battery voltage using the preset internal resistor network. The VFB pin is the noninverting input to the amplifier, VA in the Block Diagram, that controls the charging current when the (See Datasheet)", 18 VC "This is the control signal of the inner loop of the current mode PWM. Switching starts at 0.9V, higher VC corresponds to higher charging current in normal operation and reaches 1.1V at full charging current. A capacitor of (See Datasheet)", 19 PROG (in) "This pin is for programming the charge current and for system loop compensation. During normal operation, VPROG stays at 2.465V. If it is shorted to GND or more than 1mA is drawn out of the pin, switching will stop. When a (See Datasheet)", 20 BAT2 (in) "This pin is used to connect the battery to the internal preset voltage setting resistor. An internal switch disconnects the internal divider from the battery when the device is in shutdown or when power is disconnected. This (See Datasheet)", 21 SENSE (in) "This pin is the noninverting input to the current amplifier CA1 in the Block Diagram. Typical bias current is -50uA.", 22 SPIN "This pin is for the internal amplifier CA1 bias. It must be connected as shown in the application circuit.", 23 BAT (in) "Current Amplifier CA1 Inverting Input. Typical bias current is -50uA.", 24 VCC (power) "Input Supply. For good bypass, a low ESR capacitor of 10uF or higher is required. Keep the lead length to a minimum. VCC should be between 11V and 24V Do not force VCC below VBAT by more than 1V with the battery present.", 25 BOOST C (power) "This pin is used to bootstrap and supply the current sense amplifier CA1 for very low dropout condition. VCC can be as low as only 0.4V above the battery voltage. A diode and a capacitor are needed to get the voltage from (See Datasheet)", 26 GBIAS "This is the output of the internal 9.1V regulator to power the drivers and control circuits. This pin must be bypassed to a ground plane with a minimum of 2.2uF ceramic capacitor. Switching will stop when VGBIAS drops below (See Datasheet)", 27 BGATE (out) "Low Side Power MOSFET Drive.", 28 PGND (power) "MOSFET Driver Power Ground. A solid system ground plane is very important. See the LT1505 Demo Manual for further information."